# EAGLE library part MPU6050 (library QADT)
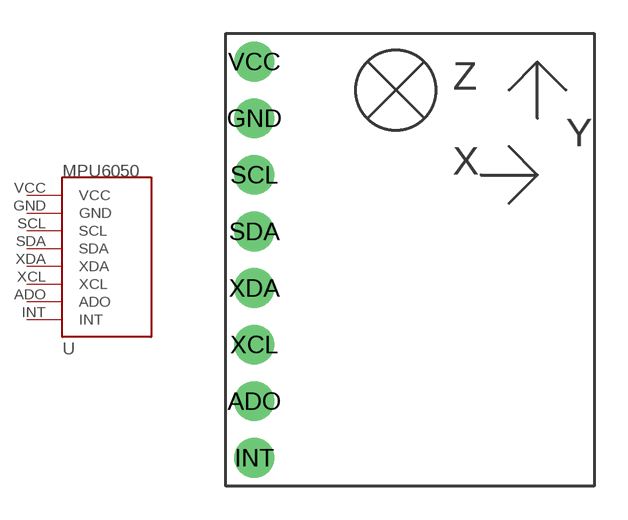
[diagram p2: symbol with the pads of MPU6050; footprint MPU6050]

Designator prefix -

## MPU6050  [MPU6050]
ADO  ADO
GND  GND
INT  INT
SCL  SCL
SDA  SDA
VCC  VCC
XCL  XCL
XDA  XDA

## Footprint MPU6050 (pad centres in mm)
drill 0.8 pad 1.778: ADO -13.97,-3.81; GND -13.97,8.89; INT -13.97,-6.35; SCL -13.97,6.35; SDA -13.97,3.81; VCC -13.97,11.43; XCL -13.97,-1.27; XDA -13.97,1.27